# Altium schematic symbol library BAS316,115.Schlib: 1 symbol
Pins are listed as number, name and electrical type; pins without a type are passive.

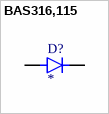
[diagram p0: symbol BAS316,115]

## BAS316,115
designator D?
pins: 1 K, 2 A